# Altium footprint library GSM.PcbLib: 2 footprints
Each footprint in its own frame and in the unit in brackets; x right, y up, seen from the top. Pads: shape width x height; smd on the part's side, far side on the other; paste and mask are expansions set on the pad; w line width, h text height; cw(c..) or ccw(c..) is an arc to the next point about the centre after c.
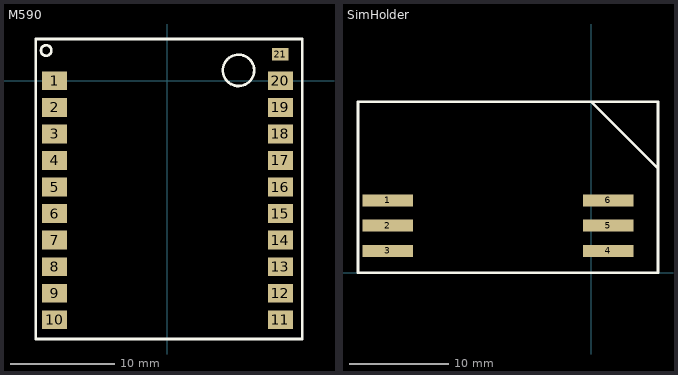
[diagram p0: the footprints below, top view; thin cyan lines are the x and y axes]

## M590 [mm]
pads (21):
  rect 2.4x1.8 smd: 1(-10.8,0) 2(-10.8,-2.54) 3(-10.8,-5.08) 4(-10.8,-7.62) 5(-10.8,-10.16) 6(-10.8,-12.7) 7(-10.8,-15.24) 8(-10.8,-17.78) 9(-10.8,-20.32) 10(-10.8,-22.86) 11(10.8,-22.86) 12(10.8,-20.32) 13(10.8,-17.78) 14(10.8,-15.24) 15(10.8,-12.7) 16(10.8,-10.16) 17(10.8,-7.62) 18(10.8,-5.08) 19(10.8,-2.54) 20(10.8,0)
  rect 1.6x1.2 smd: 21(10.8,2.54)
Top Overlay:
  circle w0.254: c6.8,1 r1.5
  circle w0.254: c-11.6,2.9 r0.5
  lines w0.254: -12.6,-24.7 -12.6,4 0.6,4 12.9,4 12.9,-24.7 -12.6,-24.7

## SimHolder [mm]
pads (6):
  rect 5.08x1.2 smd: 1(-20.5,7.27) 2(-20.5,4.73) 3(-20.5,2.19) 4(1.7,2.19) 5(1.7,4.73) 6(1.7,7.27)
Top Overlay:
  lines w0.254: 0,17.2 6.7,10.5 ; 0.5,17.2 0.8,17.2 ; 6.7,10.5 6.7,10.5 ; -23.5,0 -23.5,17.2 6.7,17.2 6.7,0 -23.5,0